# Altium footprint library Changzhou Amass Lithium Battery Connector.PcbLib: 17 footprints (part 1 of 2)
Each footprint in its own frame and in the unit in brackets; x right, y up, seen from the top. Pads: shape width x height; smd on the part's side, far side on the other; paste and mask are expansions set on the pad; w line width, h text height; cw(c..) or ccw(c..) is an arc to the next point about the centre after c.
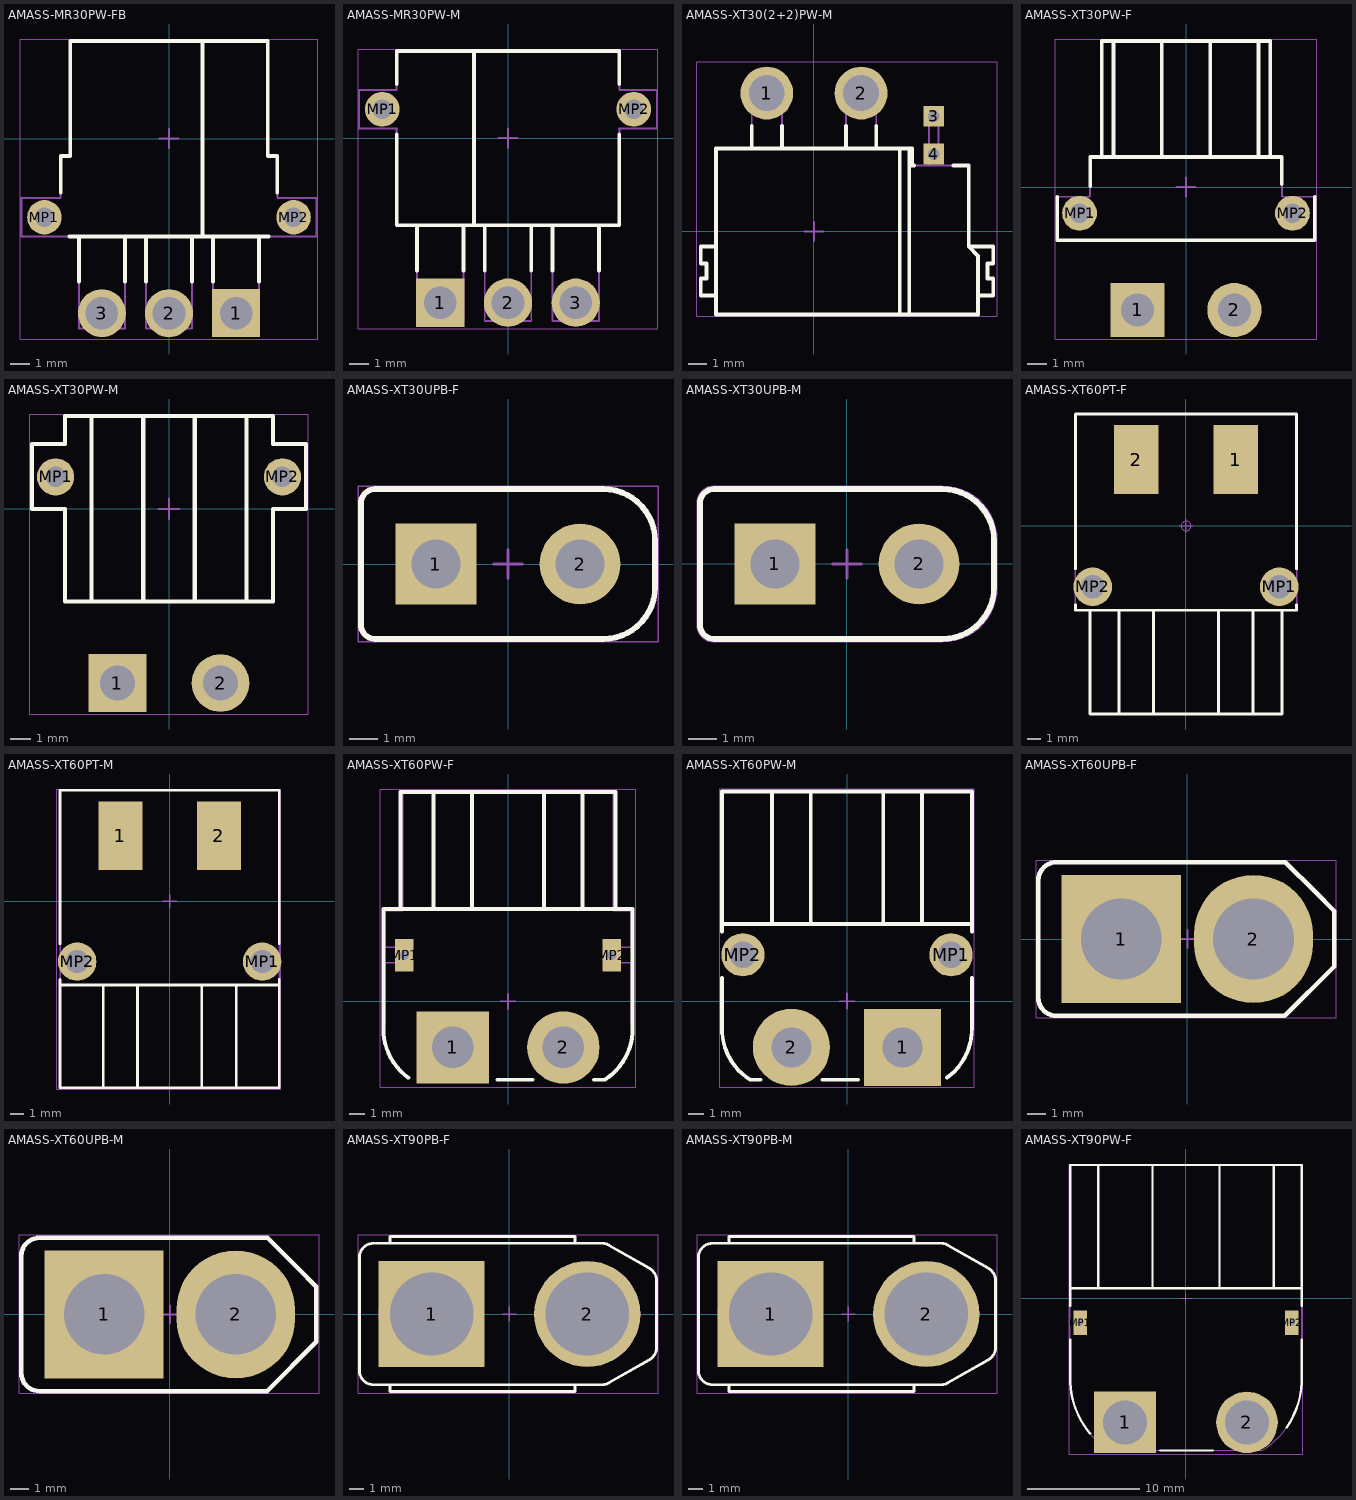
[diagram p0: the footprints below, top view; thin cyan lines are the x and y axes]

## AMASS-MR30PW-FB [mm] "TH, 4-Leads, Body 15.4x15mm, Pitch 3.5mm"
height 5.3
pads (5):
  rect 2.5x2.5 hole 1.7: 1(3.5,-9.1)
  round 2.5 hole 1.7: 2(0,-9.1) 3(-3.5,-9.1)
  round 1.8 hole 1: MP1(-6.5,-4.1) MP2(6.5,-4.1)
Top Overlay:
  lines w0.2: -5.65,-2.8 -5.65,-0.9 -5.15,-0.9 -5.15,5.1 5.15,5.1 5.15,-0.9 5.65,-0.9 5.65,-2.8 ; -5.2,-5.1 5.2,-5.1 ; -4.7,-7.45 -4.7,-5.1 ; -2.3,-7.45 -2.3,-5.1 ; -1.2,-7.45 -1.2,-5.1 ; 1.2,-7.45 1.2,-5.1 ; 1.75,-5.1 1.75,5.1 ; 2.3,-7.45 2.3,-5.1 ; 4.7,-7.45 4.7,-5.1
Mechanical 13:
  lines w0.1: -4.7,-5.1 -4.7,-9.9 -2.3,-9.9 -2.3,-5.1 ; -1.2,-5.1 -1.2,-9.9 1.2,-9.9 1.2,-5.1 ; 2.3,-5.1 2.3,-9.9 4.7,-9.9 4.7,-5.1 ; -7.7,-5.1 -7.7,-3.1 -5.65,-3.1 -5.65,-0.9 -5.15,-0.9 -5.15,5.1 5.15,5.1 5.15,-0.9 5.65,-0.9 5.65,-3.1 7.7,-3.1 7.7,-5.1 -7.7,-5.1
Mechanical 15:
  lines w0.05: -7.75,-10.45 -7.75,5.2 7.75,5.2 7.75,-10.45 -7.75,-10.45
  lines w0.1: -0.5,0 0.5,0 ; 0,-0.5 0,0.5
3D body "MR30PW-FB.STEP": height 5.3, standoff -1.65, extent -7.7,-9.55 7.7,4.9

## AMASS-MR30PW-M [mm] "TH, 4-Leads, Body 15.4x14.05mm, Pitch 3.5mm"
height 5.3
pads (5):
  rect 2.5x2.5 hole 1.7: 1(-3.5,-8.5)
  round 2.5 hole 1.7: 2(0,-8.5) 3(3.5,-8.5)
  round 1.8 hole 1: MP1(-6.5,1.5) MP2(6.5,1.5)
Top Overlay:
  lines w0.2: -5.75,0.2 -5.75,-4.5 5.75,-4.5 5.75,0.2 ; -5.75,2.8 -5.75,4.5 5.75,4.5 5.75,2.8 ; -4.7,-6.85 -4.7,-4.5 ; -2.3,-6.85 -2.3,-4.5 ; -1.75,-4.5 -1.75,4.5 ; -1.2,-6.85 -1.2,-4.5 ; 1.2,-6.85 1.2,-4.5 ; 2.3,-6.85 2.3,-4.5 ; 4.7,-6.85 4.7,-4.5
Mechanical 13:
  lines w0.1: -7.7,2.5 -5.75,2.5 -5.75,4.5 5.75,4.5 5.75,2.5 7.7,2.5 ; -7.7,2.5 -7.7,0.5 -5.74,0.5 ; -5.75,0.5 -5.75,-4.5 5.75,-4.5 5.75,0.5 ; -4.7,-4.5 -4.7,-9.45 -2.3,-9.45 -2.3,-4.5 ; -1.2,-4.5 -1.2,-9.45 1.2,-9.45 1.2,-4.5 ; 2.3,-4.5 2.3,-9.45 4.7,-9.45 4.7,-4.5 ; 5.74,0.5 7.7,0.5 7.7,2.5
Mechanical 15:
  lines w0.05: -7.75,-9.85 -7.75,4.6 7.75,4.6 7.75,-9.85 -7.75,-9.85
  lines w0.1: -0.5,0 0.5,0 ; 0,-0.5 0,0.5
3D body "MR30PW-M.step": height 4.85, standoff -2.15, extent -7.7,-9.45 7.7,4.5

## AMASS-XT30(2+2)PW-M [mm] "TH, 4-Leads, Body 15.5x12.53mm"
height 5.2
pads (4):
  round 2.8 hole 1.9: 1(-2.5,7.33) 2(2.5,7.33)
  rect 1.1x1.1 hole 0.6 square: 3(6.35,6.1) 4(6.35,4.1)
Top Overlay:
  lines w0.2: -5.2,-3.4 -6,-3.4 -6,-2.5 -5.7,-2.5 -5.7,-1.7 -6,-1.7 -6,-0.8 -5.2,-0.8 ; -3.3,4.4 -3.3,5.6 ; -1.7,4.4 -1.7,5.6 ; 1.7,4.4 1.7,5.6 ; 3.3,4.4 3.3,5.6 ; 4.55,-4.4 4.55,4.4 ; 5.05,-4.4 5.05,4.4 ; 5.3,3.5 5.2,3.5 5.2,4.4 -5.2,4.4 -5.2,-4.4 8.7,-4.4 8.7,-1.3 8.2,-0.8 ; 7.4,3.5 8.2,3.5 8.2,-0.8 ; 8.7,-3.4 9.5,-3.4 9.5,-2.5 9.2,-2.5 9.2,-1.7 9.5,-1.7 9.5,-0.8 8.2,-0.8
Mechanical 13:
  lines w0.1: -3.3,4.4 -3.3,8.13 -1.7,8.13 -1.7,4.4 ; 1.7,4.4 1.7,8.13 3.3,8.13 3.3,4.4 ; 6.1,3.5 6.1,6.35 6.6,6.35 6.6,3.5 ; -6,-3.4 -5.2,-3.4 -5.2,-4.4 8.7,-4.4 8.7,-3.4 9.5,-3.4 9.5,-2.5 9.2,-2.5 9.2,-1.7 9.5,-1.7 9.5,-0.8 8.2,-0.8 8.2,3.5 5.2,3.5 5.2,4.4 -5.2,4.4 -5.2,-0.8 -6,-0.8 -6,-1.7 -5.7,-1.7 -5.7,-2.5 -6,-2.5 -6,-3.4
Mechanical 15:
  lines w0.05: -6.2,-4.5 9.7,-4.5 9.7,9 -6.2,9 -6.2,-4.5
  lines w0.1: -0.5,0 0.5,0 ; 0,-0.5 0,0.5
3D body "XT30(2+2)PW-M.STEP": height 5.2, standoff -1.92, extent -6,-4.4 9.5,8.13

## AMASS-XT30PW-F [mm] "TH, 4-Leads, Body 14.9x13.3mm"
height 7
pads (4):
  rect 2.8x2.8 hole 1.7: 1(-2.5,-6.35)
  round 2.8 hole 1.7: 2(2.5,-6.35)
  round 1.8 hole 1: MP1(-5.5,-1.35) MP2(5.5,-1.35)
Top Overlay:
  lines w0.2: -6.65,-0.5 -6.65,-2.75 6.65,-2.75 6.65,-0.5 ; -4.95,0.05 -4.95,1.55 -4.35,1.55 ; -4.35,7.545 -4.35,1.55 ; -4.35,7.55 4.35,7.55 ; -3.75,1.55 -3.75,7.55 ; -1.25,1.55 -1.25,7.55 ; 1.25,1.55 1.25,7.55 ; 3.75,1.55 3.75,7.55 ; 4.35,7.545 4.35,1.55 ; 4.95,0.15 4.95,1.55 4.35,1.55 ; -4.35,1.55 4.35,1.55
Mechanical 13:
  lines w0.1: -4.35,7.545 -4.35,1.55 -4.95,1.55 -4.95,-0.5 -6.65,-0.5 -6.65,-2.75 6.65,-2.75 6.65,-0.5 4.95,-0.5 4.95,1.55 4.35,1.55 4.35,7.545 ; -4.35,7.55 4.35,7.55
Mechanical 15:
  lines w0.05: -6.75,-7.85 6.75,-7.85 6.75,7.65 -6.75,7.65 -6.75,-7.85
  lines w0.1: -0.5,0 0.5,0 ; 0,-0.5 0,0.5
3D body "XT30PW-F.step": height 5, standoff -2, extent -6.65,-7.35 6.65,7.55

## AMASS-XT30PW-M [mm] "TH, 4-Leads, Body 13.95x13.3mm"
height 7
pads (4):
  rect 2.8x2.8 hole 1.7: 1(-2.5,-8.45)
  round 2.8 hole 1.7: 2(2.5,-8.45)
  round 1.8 hole 1: MP1(-5.5,1.55) MP2(5.5,1.55)
Top Overlay:
  lines w0.2: -3.75,-4.5 -3.75,4.5 ; -1.25,-4.5 -1.25,4.5 ; 1.25,-4.5 1.25,4.5 ; 3.75,-4.5 3.75,4.5 ; -5.05,4.5 -5.05,4.5 ; -5.05,4.5 -5.05,3.15 -6.65,3.15 -6.65,0 -5.05,0 -5.05,-4.5 5.05,-4.5 5.05,0 6.65,0 6.65,3.15 5.05,3.15 5.05,4.5 ; -5.05,4.5 5.05,4.5 ; 5.05,4.5 5.05,4.5
Mechanical 13:
  lines w0.1: -3.75,-4.5 -3.75,4.5 ; -1.25,-4.5 -1.25,4.5 ; 1.25,-4.5 1.25,4.5 ; 3.75,-4.5 3.75,4.5 ; -5.05,4.5 5.05,4.5 ; -5.05,4.5 -5.05,3.15 -6.65,3.15 -6.65,0 -5.05,0 -5.05,-4.5 5.05,-4.5 5.05,0 6.65,0 6.65,3.15 5.05,3.15 5.05,4.5 ; -5.05,4.5 -5.05,4.5 ; 5.05,4.5 5.05,4.5
Mechanical 15:
  lines w0.05: -6.75,-9.95 -6.75,4.6 6.75,4.6 6.75,-9.95 -6.75,-9.95
  lines w0.1: -0.5,0 0.5,0 ; 0,-0.5 0,0.5
3D body "XT30PW-M.step": height 5.05, standoff -1.95, extent -6.65,-9.45 6.65,4.5

## AMASS-XT30UPB-F [mm] "TH, 2-Leads, Body 10.2x5.2mm, Pitch 5.00mm"
height 11.4
pads (2):
  rect 2.8x2.8 hole 1.7: 1(-2.5,0)
  round 2.8 hole 1.7: 2(2.5,0)
Top Overlay:
  lines w0.2: -5.1,-2.1 ccw(c-4.6,-2.1) -4.6,-2.6 3.3,-2.6 ccw(c3.3,-0.8) 5.1,-0.8 5.1,0.8 ccw(c3.3,0.8) 3.3,2.6 -4.6,2.6 ccw(c-4.6,2.1) -5.1,2.1 -5.1,-2.1
Mechanical 13:
  lines w0.1: -5.1,-2.1 ccw(c-4.6,-2.1) -4.6,-2.6 3.3,-2.6 ccw(c3.3,-0.8) 5.1,-0.8 5.1,0.8 ccw(c3.3,0.8) 3.3,2.6 -4.6,2.6 ccw(c-4.6,2.1) -5.1,2.1 -5.1,-2.1
Mechanical 15:
  lines w0.05: -5.2,-2.7 -5.2,2.7 5.2,2.7 5.2,-2.7 -5.2,-2.7
  lines w0.1: -0.5,0 0.5,0 ; 0,-0.5 0,0.5
3D body "XT30UPB-F.step": height 9.45, standoff -1.95, extent -5.1,-2.6 5.1,2.6

## AMASS-XT30UPB-M [mm] "TH, 2-Leads, Body 10.2x5.2mm, Pitch 5.00mm"
height 12.7
pads (2):
  rect 2.8x2.8 hole 1.7: 1(-2.5,0)
  round 2.8 hole 1.7: 2(2.5,0)
Top Overlay:
  lines w0.2: -5.1,-2.1 ccw(c-4.6,-2.1) -4.6,-2.6 3.3,-2.6 ccw(c3.3,-0.8) 5.1,-0.8 5.1,0.8 ccw(c3.3,0.8) 3.3,2.6 -4.6,2.6 ccw(c-4.6,2.1) -5.1,2.1 -5.1,-2.1
Mechanical 13:
  lines w0.1: -5.1,-2.1 ccw(c-4.6,-2.1) -4.6,-2.6 3.3,-2.6 ccw(c3.3,-0.8) 5.1,-0.8 5.1,0.8 ccw(c3.3,0.8) 3.3,2.6 -4.6,2.6 ccw(c-4.6,2.1) -5.1,2.1 -5.1,-2.1
Mechanical 15:
  lines w0.05: -5.2,-2.1 ccw(c-4.6,-2.1) -4.6,-2.7 3.3,-2.7 ccw(c3.3,-0.8) 5.2,-0.8 5.2,0.8 ccw(c3.3,0.8) 3.3,2.7 -4.6,2.7 ccw(c-4.6,2.1) -5.2,2.1 -5.2,-2.1
  lines w0.1: -0.5,0 0.5,0 ; 0,-0.5 0,0.5
3D body "XT30UPB-M.STEP": height 9.45, standoff -1.95, extent -5.1,-2.595 5.1,2.605

## AMASS-XT60PT-F [mm] "Conn, Female, 4-Leads, Body 15.5x21.7mm, Pitch 7.2mm"
height 8.4
pads (4):
  rect 3.2x5 smd: 1(3.6,4.8) 2(-3.6,4.8)
  round 2.8 hole 1.7: MP1(6.75,-4.4) MP2(-6.75,-4.4)
Top Overlay:
  lines w0.2: -8,-5.7 -8,-6.1 8,-6.1 8,-5.7 ; -8,-3.1 -8,8.1 8,8.1 8,-3.1 ; -6.95,-6.1 -6.95,-13.6 6.95,-13.6 6.95,-6.1 ; -4.85,-13.6 -4.85,-6.1 ; -2.35,-13.6 -2.35,-6.1 ; 2.35,-13.6 2.35,-6.1 ; 4.85,-13.6 4.85,-6.1
Mechanical 13:
  lines w0.1: -8,-6.1 -8,8.1 8,8.1 8,-6.1 6.95,-6.1 6.95,-13.6 -6.95,-13.6 -6.95,-6.1 -8,-6.1
Mechanical 15:
  circle w0.05: c0,0 r0.35
  lines w0.05: -0.5,0 0.5,0 ; 0,-0.5 0,0.5
3D body "XT60PT-F.step": height 8.5, standoff -1.38, extent -8,-13.6 8,8.1

## AMASS-XT60PT-M [mm] "Conn, Male, 4-Leads, Body 15.5x22.7mm, Pitch 7.2mm"
height 8.4
pads (4):
  rect 3.2x5 smd: 1(-3.6,4.8) 2(3.6,4.8)
  round 2.8 hole 1.7: MP1(6.75,-4.4) MP2(-6.75,-4.4)
Top Overlay:
  lines w0.2: -8,-6.1 8,-6.1 ; -8,-5.7 -8,-13.6 8,-13.6 8,-5.7 ; -8,-3.1 -8,8.1 8,8.1 8,-3.1 ; -4.85,-13.6 -4.85,-6.1 ; -2.35,-13.6 -2.35,-6.1 ; 2.35,-13.6 2.35,-6.1 ; 4.85,-13.6 4.85,-6.1
Mechanical 13:
  lines w0.1: -8,-13.6 -8,8.1 8,8.1 8,-13.6 -8,-13.6
Mechanical 15:
  lines w0.05: -8.25,-13.7 8.1,-13.7 8.1,8.2 -8.25,8.2 -8.25,-13.7
  lines w0.1: -0.5,0 0.5,0 ; 0,-0.5 0,0.5
3D body "XT60PT-M.step": height 8.5, standoff -1.38, extent -8.025,-13.6 7.975,8.1

## AMASS-XT60PW-F [mm] "TH, 2-Leads, Body 15.5x8.1mm, Pitch 7.2mm"
height 17.7
pads (4):
  rect 4.7x4.7 hole 2.7: 1(-3.6,-3)
  round 4.7 hole 2.7: 2(3.6,-3)
  rect 1.2x2.1 hole 0.6 square: MP1(-6.75,3) MP2(6.75,3)
Top Overlay:
  lines w0.254: -8.1,-1.792 -8.1,6 8.1,6 8.1,-1.738 cw(c4.2,-1.8) 6.294,-5.091 ; -8.1,-1.738 ccw(c-4.2,-1.8) -6.476,-4.967 ; -7,6 -7,13.6 7,13.6 7,6 ; -4.85,6 -4.85,13.6 ; -2.35,6 -2.35,13.6 ; -0.7,-5.1 1.6,-5.1 ; 2.35,6 2.35,13.6 ; 4.85,6 4.85,13.6 ; 5.6,-5.1 6.294,-5.1 ; 0,6 ccw(c0,6) 0,6
Mechanical 13:
  lines w0.1: -8,-1.5 -8,2.5 -7.05,2.5 -7.05,3.5 -8,3.5 -8,5.9 -6.85,5.9 -6.85,13.6 6.85,13.6 6.85,5.9 8,5.9 8,3.5 7.05,3.5 7.05,2.5 8,2.5 8,-1.5
Mechanical 15:
  lines w0.05: -8.3,-5.6 -8.3,13.8 8.3,13.8 8.3,-5.6 -8.3,-5.6
  lines w0.1: -0.5,0 0.5,0 ; 0,-0.5 0,0.5
3D body "TX60PW-F20.STEP": height 8.65, standoff -2.35, extent -8,-5.02 8,13.6

## AMASS-XT60PW-M [mm] "TH, 2-Leads, Body 15.5x8.1mm, Pitch 7.2mm"
height 8.1
pads (4):
  rect 5x5 hole 2.6: 1(3.6,-3)
  round 5 hole 2.6: 2(-3.6,-3)
  round 2.8 hole 1.7: MP1(6.75,3) MP2(-6.75,3)
Top Overlay:
  lines w0.254: -8.1,1.5 -8.1,-1.738 ccw(c-4.2,-1.8) -6.294,-5.091 ; -8.1,4.5 -8.1,5 ; -6.294,-5.1 -5.6,-5.1 ; -4.85,5 -4.85,13.6 ; -2.35,5 -2.35,13.6 ; -1.6,-5.1 0.7,-5.1 ; 2.35,5 2.35,13.6 ; 4.85,5 4.85,13.6 ; 6.476,-4.967 ccw(c4.2,-1.8) 8.1,-1.738 ; 8.1,-1.792 8.1,1.5 ; 8.1,4.5 8.1,5 ; -8.1,5 8.1,5 ; -8.1,5 -8.1,13.6 8.1,13.6 8.1,5
Mechanical 15:
  lines w0.05: -8.25,-5.6 -8.25,13.75 8.25,13.75 8.25,-5.6 -8.25,-5.6
  lines w0.1: -0.5,0 0.5,0 ; 0,-0.5 0,0.5
3D body "3D_PCB1_2023-08-01.step": height 8.1, standoff -3, extent -7.75,-4.95 7.75,13.15

## AMASS-XT60UPB-F [mm] "TH, 2-Leads, Body 15.3x7.9mm, Pitch 7.2mm"
height 13.5
pads (2):
  rect 6.5x7 hole 4.4: 1(-3.6,0)
  oval 6.5x7 hole 4.4: 2(3.6,0)
Top Overlay:
  lines w0.254: -8.128,-3.191 ccw(c-7.128,-3.191) -7.128,-4.191 5.309,-4.191 8,-1.5 8,1.525 6.985,2.54 5.334,4.191 -7.128,4.191 ccw(c-7.128,3.191) -8.128,3.191 -8.128,-3.191
Mechanical 15:
  lines w0.05: -8.25,-4.3 8.1,-4.3 8.1,4.3 -8.25,4.3 -8.25,-4.3
  lines w0.1: -0.5,0 0.5,0 ; 0,-0.5 0,0.5
3D body "TX60-LI-P.STEP": height 15.85, standoff -2.25, extent -8,-4.1 8,4.1

## AMASS-XT60UPB-M [mm] "TH, 2-Leads, Body 15.3x7.9mm, Pitch 7.2mm"
height 13.5
pads (2):
  rect 6.5x7 hole 4.4: 1(-3.6,0)
  oval 6.5x7 hole 4.4: 2(3.6,0)
Top Overlay:
  lines w0.254: -8.128,-3.191 ccw(c-7.128,-3.191) -7.128,-4.191 5.309,-4.191 8,-1.5 8,1.525 6.985,2.54 5.334,4.191 -7.128,4.191 ccw(c-7.128,3.191) -8.128,3.191 -8.128,-3.191
Mechanical 15:
  lines w0.05: -8.25,-4.3 -8.25,4.35 8.15,4.35 8.15,-4.3 -8.25,-4.3
  lines w0.1: -0.5,0 0.5,0 ; 0,-0.5 0,0.5
3D body "TX60-LI-S.STEP": height 16.05, standoff -2.25, extent -8,-4.1 8,4.1

## AMASS-XT90PB-F [mm] "TH, 2-Leads, Body 20.8 x 9.9mm, Pitch 11.0mm"
height 19.7
pads (2):
  rect 7.5x7.5 hole 5.9: 1(-5.5,0)
  round 7.5 hole 5.9: 2(5.5,0)
Top Overlay:
  lines w0.2: -8.435,-5 -8.435,-5.47 4.635,-5.47 4.635,-5 ; -8.435,5 -8.435,5.47 4.635,5.47 4.635,5 ; -10.6,-4 ccw(c-9.6,-4) -9.6,-5 6.533,-5 ccw(c6.533,-4) 7.031,-4.867 9.898,-3.219 ccw(c9.4,-2.352) 10.4,-2.352 10.4,2.352 ccw(c9.4,2.352) 9.898,3.219 7.031,4.867 ccw(c6.533,4) 6.533,5 -9.6,5 ccw(c-9.6,4) -10.6,4 -10.6,-4
Mechanical 13:
  circle w0.1: c5.55,0 r3.65
  circle w0.1: c5.55,0 r2.85
  circle w0.1: c-5.55,0 r2.85
  circle w0.1: c-5.55,0 r3.65
  lines w0.1: -8.435,-5 -8.435,-5.47 4.635,-5.47 4.635,-5 ; -8.435,5 -8.435,5.47 4.635,5.47 4.635,5 ; -10.6,-4 ccw(c-9.6,-4) -9.6,-5 6.533,-5 ccw(c6.533,-4) 7.031,-4.867 9.898,-3.219 ccw(c9.4,-2.352) 10.4,-2.352 10.4,2.352 ccw(c9.4,2.352) 9.898,3.219 7.031,4.867 ccw(c6.533,4) 6.533,5 -9.6,5 ccw(c-9.6,4) -10.6,4 -10.6,-4
Mechanical 15:
  lines w0.05: -10.7,-5.6 10.5,-5.6 10.5,5.6 -10.7,5.6 -10.7,-5.6
  lines w0.1: -0.5,0 0.5,0 ; 0,-0.5 0,0.5
3D body "XT90PB-F.SLDPRT": height 19.7, standoff -5.3, extent -10.6,-5.47 10.4,5.47

## AMASS-XT90PB-M [mm] "TH, 2-Leads, Body 20.8 x 9.9mm, Pitch 11.0mm"
height 19.7
pads (2):
  rect 7.5x7.5 hole 5.9: 1(-5.5,0)
  round 7.5 hole 5.9: 2(5.5,0)
Top Overlay:
  lines w0.2: -8.435,-5 -8.435,-5.47 4.635,-5.47 4.635,-5 ; -8.435,5 -8.435,5.47 4.635,5.47 4.635,5 ; -10.6,-4 ccw(c-9.6,-4) -9.6,-5 6.533,-5 ccw(c6.533,-4) 7.031,-4.867 9.898,-3.219 ccw(c9.4,-2.352) 10.4,-2.352 10.4,2.352 ccw(c9.4,2.352) 9.898,3.219 7.031,4.867 ccw(c6.533,4) 6.533,5 -9.6,5 ccw(c-9.6,4) -10.6,4 -10.6,-4
Mechanical 13:
  circle w0.1: c-5.55,0 r3.65
  circle w0.1: c-5.55,0 r2.85
  circle w0.1: c5.55,0 r2.85
  circle w0.1: c5.55,0 r3.65
  lines w0.1: -8.435,-5 -8.435,-5.47 4.635,-5.47 4.635,-5 ; -8.435,5 -8.435,5.47 4.635,5.47 4.635,5 ; -10.6,-4 ccw(c-9.6,-4) -9.6,-5 6.533,-5 ccw(c6.533,-4) 7.031,-4.867 9.898,-3.219 ccw(c9.4,-2.352) 10.4,-2.352 10.4,2.352 ccw(c9.4,2.352) 9.898,3.219 7.031,4.867 ccw(c6.533,4) 6.533,5 -9.6,5 ccw(c-9.6,4) -10.6,4 -10.6,-4
Mechanical 15:
  lines w0.05: -10.7,-5.6 -10.7,5.6 10.5,5.6 10.5,-5.6 -10.7,-5.6
  lines w0.1: -0.5,0 0.5,0 ; 0,-0.5 0,0.5
3D body "XT90PB-M.step": height 20.95, standoff -5.45, extent -10.7,-5.4 10.7,5.4

## AMASS-XT90PW-F [mm] "THD, 2-Leads, Body 20.8x25.4mm, Pitch 10.9mm"
height 10.2
pads (4):
  rect 5.5x5.5 hole 3.9: 1(-5.45,-11.1)
  round 5.5 hole 3.9: 2(5.45,-11.1)
  rect 1.2x2.2 hole 0.6 square: MP1(-9.45,-2.2) MP2(9.45,-2.2)
Top Overlay:
  lines w0.2: -10.35,-7.1 -10.35,-3.7 ; -10.35,-7.1 ccw(c-2.728,-7.188) -8.567,-12.088 ; -10.35,-0.7 -10.35,11.9 10.35,11.9 10.35,-0.7 ; -10.35,0.9 10.35,0.9 ; -7.85,0.9 -7.85,11.9 ; -3,0.9 -3,11.9 ; -2.3,-13.6 2.4,-13.6 ; 3,0.9 3,11.9 ; 7.85,0.9 7.85,11.9 ; 8.972,-11.56 ccw(c2.728,-7.188) 10.35,-7.1 ; 10.35,-7.1 10.35,-3.7
Mechanical 13:
  lines w0.1: -10.35,-7.1 ccw(c-2.728,-7.188) -6.85,-13.6 6.85,-13.6 ccw(c2.728,-7.188) 10.35,-7.1 10.35,11.9 -10.35,11.9 -10.35,-7.1
Mechanical 15:
  lines w0.05: -10.45,-13.95 -10.45,12 10.45,12 10.45,-13.95 -10.45,-13.95
  lines w0.1: -0.5,0 0.5,0 ; 0,-0.5 0,0.5
3D body "XT90PW-F.STEP": height 10.1, standoff -2.7, extent -10.35,-13.6 10.35,13.6